# Altium schematic symbol library Nguyen Quang Minh.SchLib: 1 symbol
Pins are listed as number, name and electrical type; pins without a type are passive.

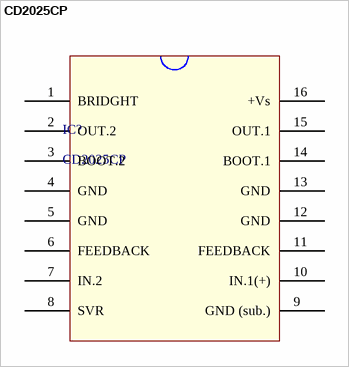
[diagram p0: symbol CD2025CP]

## CD2025CP
designator IC?
footprint CD2025CP
pins: 1 BRIDGHT, 2 OUT.2, 3 BOOT.2, 4 GND, 5 GND, 6 FEEDBACK, 7 IN.2, 8 SVR, 9 GND (sub.), 10 IN.1(+), 11 FEEDBACK, 12 GND, 13 GND, 14 BOOT.1, 15 OUT.1, 16 +Vs